# Altium footprint library MainPcblib.PcbLib: 316 footprints (part 9 of 20)
Each footprint in its own frame and in the unit in brackets; x right, y up, seen from the top. Pads: shape width x height; smd on the part's side, far side on the other; paste and mask are expansions set on the pad; w line width, h text height; cw(c..) or ccw(c..) is an arc to the next point about the centre after c.
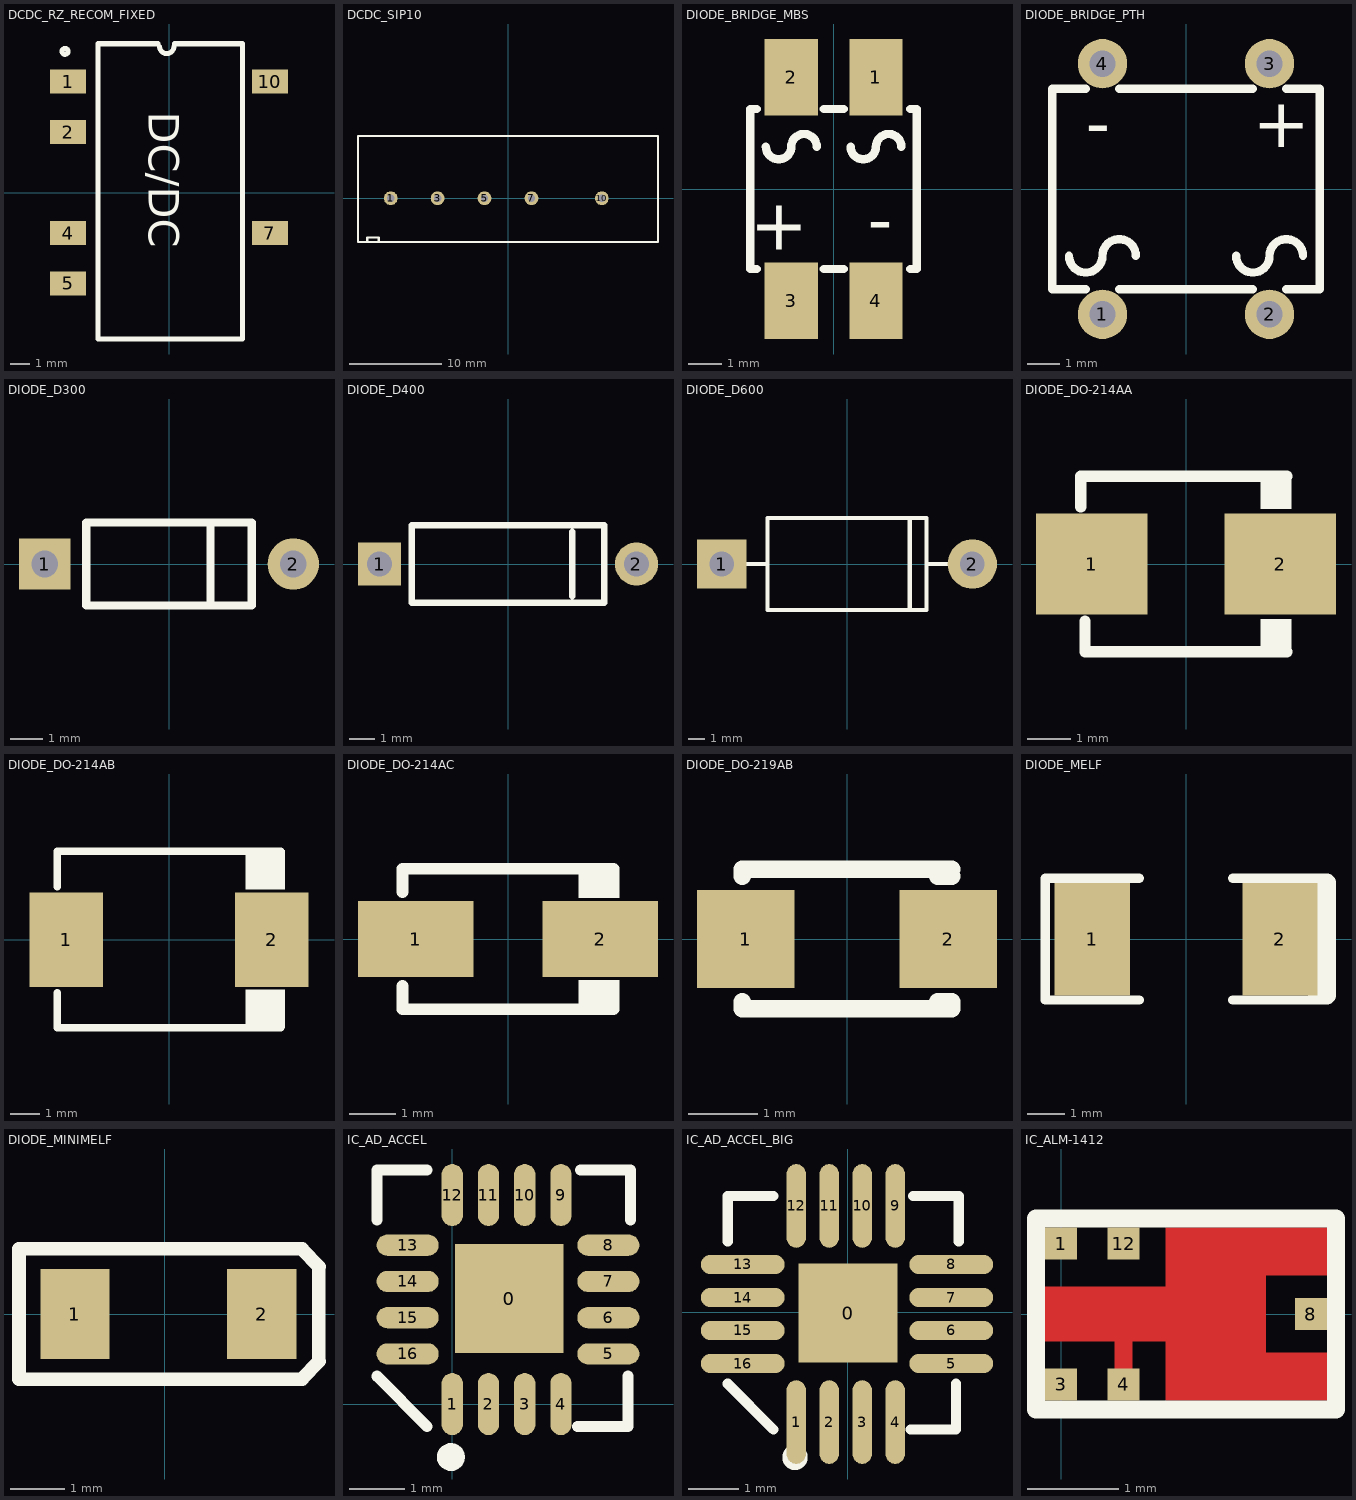
[diagram p8: the footprints below, top view; thin cyan lines are the x and y axes]

## DCDC_RZ_RECOM_FIXED [mil]
pads (6):
  rect 72x48 smd: 1(-200,220) 2(-200,120) 4(-200,-80) 5(-200,-180) 7(200,-80) 10(200,220)
Top Overlay:
  circle w9.84: c-205.91,280 r5.91
  lines w9.84: -140.94,295 -140.94,-290 145.67,-290 145.67,295 ; -18.87,290 ccw(c-4.44,290) 10,290
  lines w10: -140.94,295 -21.85,295 ; 10.72,295 145.67,295
  text "DC/DC" at -40,160 h60

## DCDC_SIP10 [mm] "for BP504x series AC/DC converters"
height 19
pads (5):
  round 1.5 hole 0.8: 1(-12.7,0) 3(-7.62,0) 5(-2.54,0) 7(2.54,0) 10(10.16,0)
Top Overlay:
  lines w0.254: -15.25,-4.75 -15.25,-4.25 -14,-4.25 -14,-4.75 ; -16.25,-4.75 -16.25,6.75 16.25,6.75 16.25,-4.75 -16.25,-4.75

## DIODE_BRIDGE_MBS [mm]
pads (4):
  rect 1.6x2.3 smd: 1(1.27,3.35) 2(-1.27,3.35) 3(-1.27,-3.35) 4(1.27,-3.35)
Top Overlay:
  lines w0.254: -2.3,-2.4 -2.5,-2.4 -2.5,2.4 -2.3,2.4 ; -2.032,1.27 ccw(c-1.651,1.27) -1.27,1.27 cw(c-0.889,1.27) -0.508,1.27 ; -0.3,-2.4 0.3,-2.4 ; -0.3,2.4 0.3,2.4 ; 0.508,1.27 ccw(c0.889,1.27) 1.27,1.27 cw(c1.651,1.27) 2.032,1.27 ; 2.3,-2.4 2.5,-2.4 2.5,2.4 2.3,2.4
  text "-" at 1.778,-0.508 h1.52
  text "+" at -0.762,-0.508 h1.52

## DIODE_BRIDGE_PTH [mm]
pads (4):
  round 1.5 hole 0.8: 1(-2.54,-3.81) 2(2.54,-3.81) 3(2.54,3.81) 4(-2.54,3.81)
Top Overlay:
  lines w0.254: -3.556,-2.032 ccw(c-3.048,-2.032) -2.54,-2.032 cw(c-2.032,-2.032) -1.524,-2.032 ; -3.048,-3.048 -4.064,-3.048 -4.064,3.048 -3.048,3.048 ; -2.032,-3.048 2.032,-3.048 ; -2.032,3.048 2.032,3.048 ; 1.524,-2.032 ccw(c2.032,-2.032) 2.54,-2.032 cw(c3.048,-2.032) 3.556,-2.032 ; 3.048,-3.048 4.064,-3.048 4.064,3.048 3.048,3.048
  text "+" at 2.032,1.27 h1.52
  text "-" at -3.048,1.27 h1.52

## DIODE_D300 [mil] "Diode"
height 39.37
pads (2):
  rect 62x62 hole 32: 1(-150,0)
  round 62 hole 32: 2(150,0)
Top Overlay:
  lines w10: 50,-50 50,50 ; -100,-50 -100,50 100,50 100,-50 -100,-50

## DIODE_D400 [mm] "Diode"
height 1
pads (2):
  rect 1.7x1.7 hole 1: 1(-5.08,0)
  round 1.7 hole 1: 2(5.08,0)
Top Overlay:
  lines w0.254: 2.54,-1.27 2.54,1.27 ; -3.81,-1.524 -3.81,1.524 3.81,1.524 3.81,-1.524 -3.81,-1.524

## DIODE_D600 [mm] "Diode"
height 1
pads (2):
  rect 3x3 hole 1.5: 1(-7.62,0)
  round 3 hole 1.5: 2(7.62,0)
Top Overlay:
  lines w0.254: -6.35,0 -4.826,0 ; 3.81,-2.794 3.81,2.794 ; 4.826,0 6.35,0 ; -4.826,-2.794 4.826,-2.794 4.826,2.794 -4.826,2.794 -4.826,-2.794

## DIODE_DO-214AA [mm] "medium-current diode - SMB"
height 3
pads (2):
  rect 2.54x2.3 smd: 1(-2.15,0) 2(2.15,0)
Top Overlay:
  rectangle: 1.7,-2 2.4,-1.25
  rectangle: 1.7,1.25 2.4,2
  lines w0.254: -2.4,1.3 -2.4,2 2.3,2 ; -2.3,-1.3 -2.3,-2 2.3,-2

## DIODE_DO-214AB [mm] "medium-current diode - SMC, SS34"
height 2.5
pads (2):
  rect 2.5x3.2 smd: 1(-3.5,0) 2(3.5,0)
Top Overlay:
  rectangle: 2.6,1.7 3.937,3.048
  rectangle: 2.6,-3 3.937,-1.7
  lines w0.254: -3.8,-1.8 -3.8,-3 3.8,-3 ; -3.8,1.8 -3.8,3 3.8,3

## DIODE_DO-214AC [mm] "low-current diode (SMA) SS14"
pads (2):
  rect 2.5x1.651 smd: 1(-2,0) 2(2,0)
Top Overlay:
  rectangle: 1.524,-1.524 2.413,-0.889
  rectangle: 1.524,0.889 2.413,1.524
  lines w0.254: -2.286,-1.016 -2.286,-1.524 2.286,-1.524 ; -2.286,1.016 -2.286,1.524 2.286,1.524

## DIODE_DO-219AB [mm] "Zener diode - SMD"
pads (2):
  rect 1.4x1.4 smd: 1(-1.45,0) 2(1.45,0)
Top Overlay:
  lines w0.254: -1.5,-0.9 -1.5,-1 1.5,-1 1.5,-0.9 1.3,-0.9 1.3,-1 ; -1.5,0.9 -1.5,1 1.5,1 ; 1.3,0.9 1.5,0.9

## DIODE_MELF [mil] "SMD Diode - MELF case"
pads (2):
  rect 80x120 smd: 1(-100,0) 2(100,0)
Top Overlay:
  lines w10: -50,-65 -150,-65 -150,65 -145,65 -50,65 ; 50,-65 150,-65 ; 50,65 150,65 ; 135,-65 135,65
  lines w20: 150,-60 150,60

## DIODE_MINIMELF [mil]
pads (2):
  rect 50x65 smd: 1(-65,0) 2(70,0)
Top Overlay:
  lines w9.84: 99.17,-47.24 -105.35,-47.24 -105.35,47.24 99.17,47.24 ; 99.17,-46.85 111.38,-34.25 ; 99.17,46.85 111.38,34.25 ; 111.18,-34.25 111.18,34.25

## IC_AD_ACCEL [mm]
pads (17):
  rect 1.95x1.95 smd: 0(1.024,1.894)
  oval 0.381x1.114 smd: 1(0,0) 2(0.65,0) 3(1.3,0) 4(1.95,0) 9(1.95,3.75) 10(1.3,3.75) 11(0.65,3.75) 12(0,3.75)
  oval 1.114x0.381 smd: 5(2.8,0.9) 6(2.8,1.55) 7(2.8,2.2) 8(2.8,2.85) 13(-0.8,2.85) 14(-0.8,2.2) 15(-0.8,1.55) 16(-0.8,0.9)
Top Overlay:
  circle w0.25: c-0.025,-0.95 r0.125
  lines w0.2: -1.35,0.5 -0.45,-0.4 ; -1.35,3.3 -1.35,4.2 -0.45,4.2 ; 2.25,-0.4 3.15,-0.4 3.15,0.5 ; 2.3,4.2 3.2,4.2 3.2,3.3

## IC_AD_ACCEL_BIG [mil]
pads (17):
  rect 76.77x76.77 smd: 0(0.32,-0.43)
  oval 15x65 smd: 1(-40,-85) 2(-14.41,-85) 3(11.18,-85) 4(36.77,-85) 9(36.77,82.64) 10(11.18,82.64) 11(-14.41,82.64) 12(-40,82.64)
  oval 65x15 smd: 5(80.24,-39.57) 6(80.24,-13.98) 7(80.24,11.61) 8(80.24,37.2) 13(-81.5,37.2) 14(-81.5,11.61) 15(-81.5,-13.98) 16(-81.5,-39.57)
Top Overlay:
  circle w9.84: c-40.98,-112.4 r4.92
  lines w7.87: -93.15,-55.32 -57.72,-90.75 ; -93.15,54.92 -93.15,90.35 -57.72,90.35 ; 48.58,-90.75 84.02,-90.75 84.02,-55.32 ; 50.55,90.35 85.98,90.35 85.98,54.92

## IC_ALM-1412 [mm] "Avago GPS LNA+Filter"
height 1
pads (5):
  rect 0.35x0.35 smd mask+0.05: 1(0,0.775) 3(0,-0.775) 4(0.688,-0.775) 8(2.75,0) 12(0.688,0.775)
Top Layer:
  region: -0.225,-0.3 1.15,-0.3 1.15,-0.95 2.925,-0.95 2.925,-0.425 2.25,-0.425 2.25,0.425 2.925,0.425 2.925,0.95 1.15,0.95 1.15,0.3 -0.225,0.3
  lines w0.2: 0.688,-0.775 0.688,-0.188
Top Overlay:
  lines w0.2: -0.275,-1.05 3.025,-1.05 3.025,1.05 -0.275,1.05 -0.275,-1.05
Top Solder:
  rectangle: 2.275,0.55 2.725,1
  rectangle: 1.248,0.55 1.698,1
  rectangle: 2.275,-1 2.725,-0.55
  rectangle: 1.248,-1 1.698,-0.55
  rectangle: 1,-0.25 2,0.25
  rectangle: -0.225,-0.225 0.5,0.225